# EAGLE library part FD2793 (library western-digital-devices)
FD2793 Floppy Disk Formatter/Controller
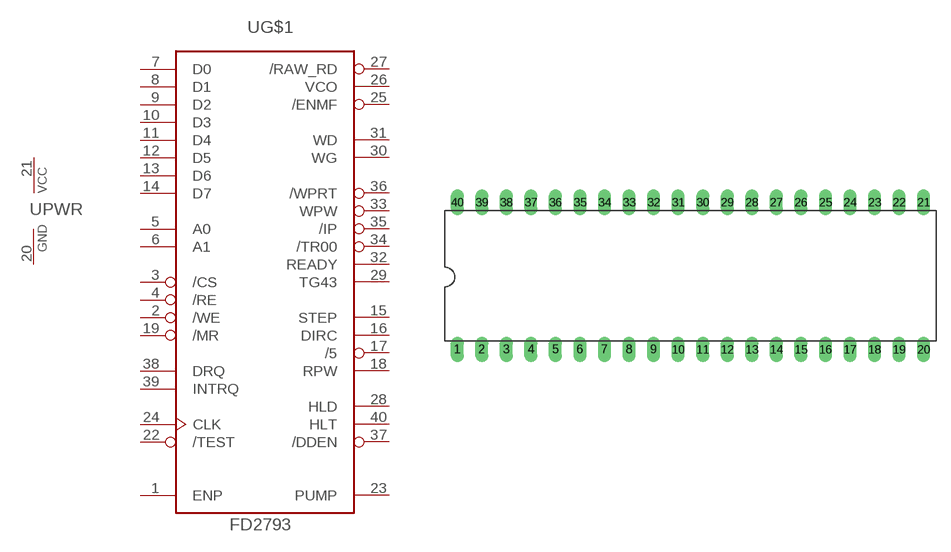
[diagram p0: symbol with the pads of DIL40; footprint DIL40]

Designator prefix -; gates G$1=FD2793 PWR=PWRN

## FD2793  [DIL40]
1  G$1:ENP  pwr
2  G$1:/WE  in
3  G$1:/CS  in
4  G$1:/RE  in
5  G$1:A0  in
6  G$1:A1  in
7  G$1:D0
8  G$1:D1
9  G$1:D2
10  G$1:D3
11  G$1:D4
12  G$1:D5
13  G$1:D6
14  G$1:D7
15  G$1:STEP  out
16  G$1:DIRC  out
17  G$1:/5  out
18  G$1:RPW  in
19  G$1:/MR  in
20  PWR:GND  pwr
21  PWR:VCC  pwr
22  G$1:/TEST  in
23  G$1:PUMP  pwr
24  G$1:CLK  in
25  G$1:/ENMF  in
26  G$1:VCO  in
27  G$1:/RAW_RD  in
28  G$1:HLD  out
29  G$1:TG43  out
30  G$1:WG  out
31  G$1:WD  out
32  G$1:READY  in
33  G$1:WPW  in
34  G$1:/TR00  in
35  G$1:/IP  in
36  G$1:/WPRT  in
37  G$1:/DDEN  in
38  G$1:DRQ  out
39  G$1:INTRQ  out
40  G$1:HLT  in

## Footprint DIL40 (pad centres in mm)
drill 0.813 long: 1 -24.13,-7.62; 2 -21.59,-7.62; 3 -19.05,-7.62; 4 -16.51,-7.62; 5 -13.97,-7.62; 6 -11.43,-7.62; 7 -8.89,-7.62; 8 -6.35,-7.62; 9 -3.81,-7.62; 10 -1.27,-7.62; 11 1.27,-7.62; 12 3.81,-7.62; 13 6.35,-7.62; 14 8.89,-7.62; 15 11.43,-7.62; 16 13.97,-7.62; 17 16.51,-7.62; 18 19.05,-7.62; 19 21.59,-7.62; 20 24.13,-7.62; 21 24.13,7.62; 22 21.59,7.62; 23 19.05,7.62; 24 16.51,7.62; 25 13.97,7.62; 26 11.43,7.62; 27 8.89,7.62; 28 6.35,7.62; 29 3.81,7.62; 30 1.27,7.62; 31 -1.27,7.62; 32 -3.81,7.62; 33 -6.35,7.62; 34 -8.89,7.62; 35 -11.43,7.62; 36 -13.97,7.62; 37 -16.51,7.62; 38 -19.05,7.62; 39 -21.59,7.62; 40 -24.13,7.62